# Altium footprint library NRF52832_Ball.PcbLib: 38 footprints (part 1 of 3)
Each footprint in its own frame and in the unit in brackets; x right, y up, seen from the top. Pads: shape width x height; smd on the part's side, far side on the other; paste and mask are expansions set on the pad; w line width, h text height; cw(c..) or ccw(c..) is an arc to the next point about the centre after c.
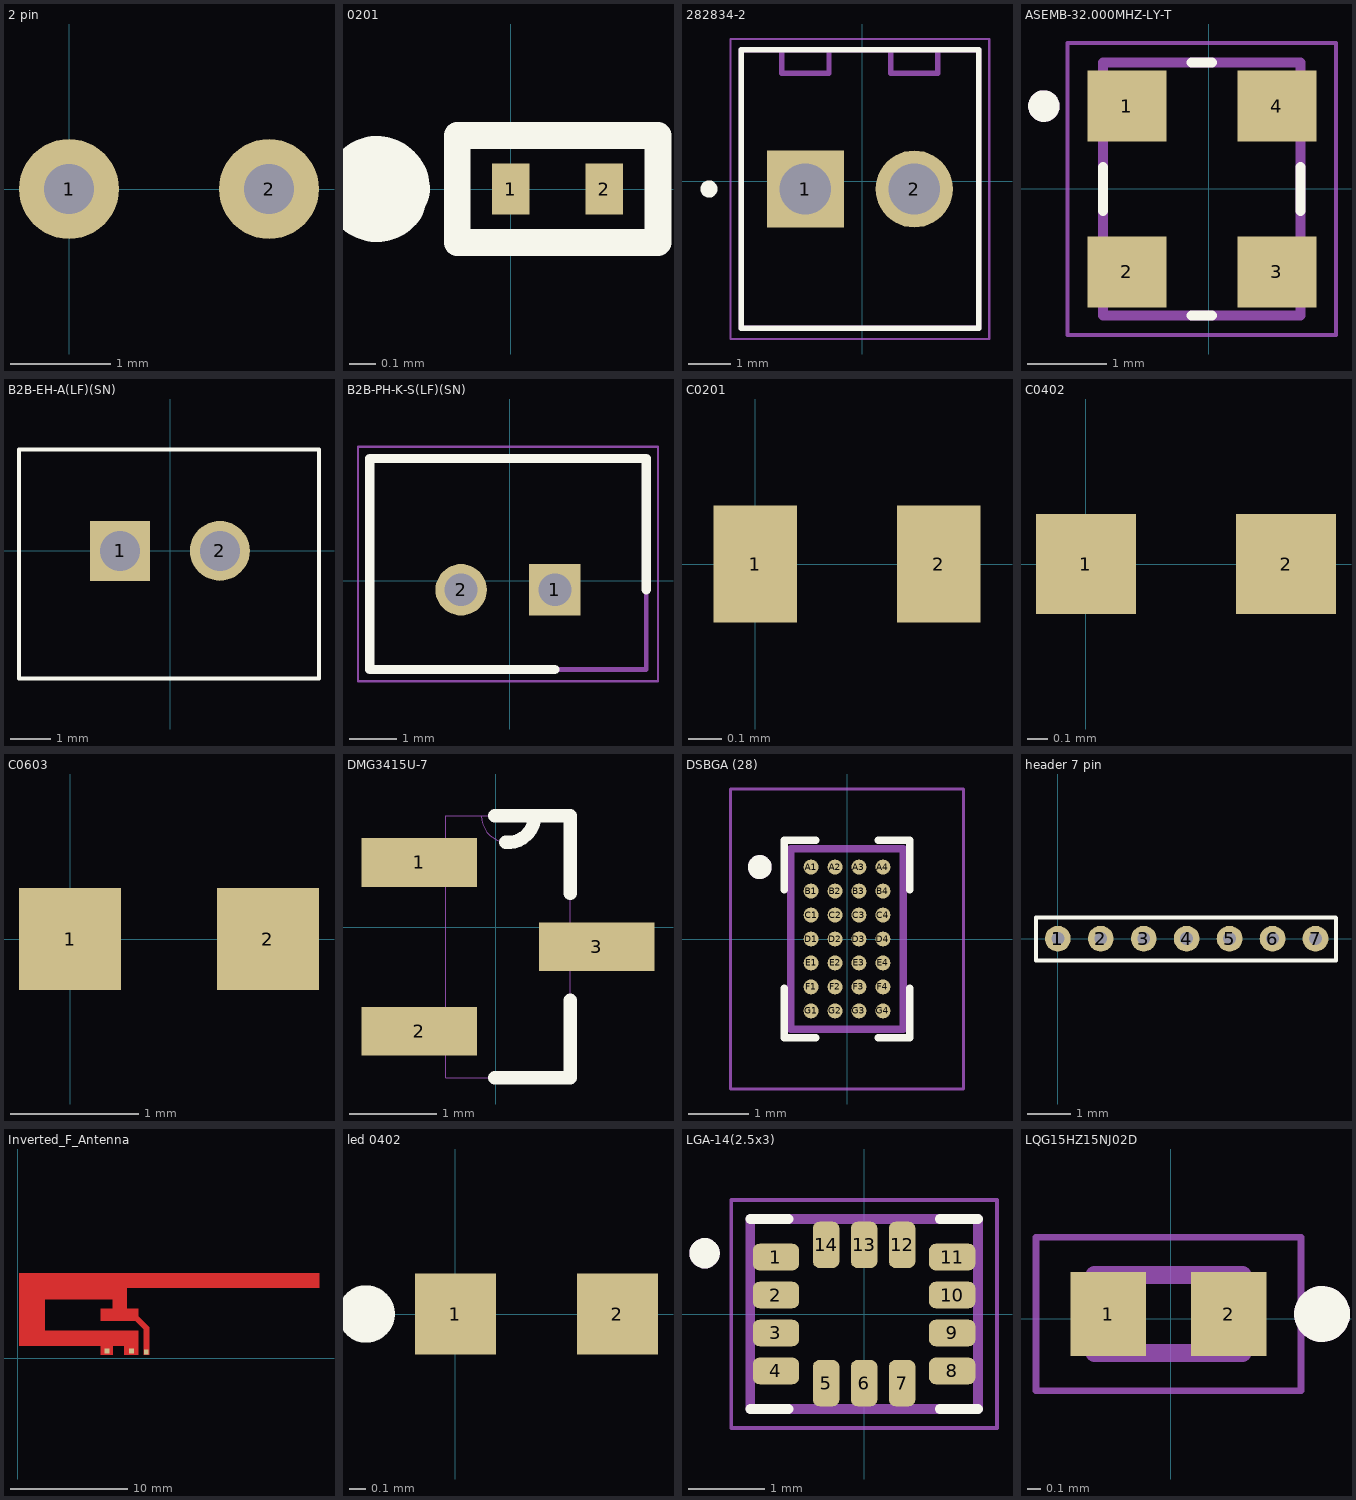
[diagram p0: the footprints below, top view; thin cyan lines are the x and y axes]

## 2 pin [mm]
pads (2):
  round 1 hole 0.5: 1(0,0) 2(2,0)

## 0201 [mm]
pads (2):
  rect 0.14x0.19 smd mask+0.1: 1(0,0)
  rect 0.14x0.19 smd paste+0 mask+0.1: 2(0.35,0)
Top Overlay:
  lines w0.1: -0.2,-0.2 -0.2,0.2 0.55,0.2 0.55,-0.2 -0.2,-0.2
  lines w0.254: -0.445,-0.044 cw(c-0.5,0) -0.429,0
3D body "RES0201.STEP": height 0, standoff -0.23, extent -0.125,-0.15 0.475,0.15

## 282834-2 [mm]
pads (2):
  rect 1.8x1.8 / inner round 1.8 / far side rect 1.8x1.8 hole 1.2: 1(-1.323,-0.179)
  round 1.8 hole 1.2: 2(1.217,-0.179)
Top Overlay:
  circle w0.2: c-3.573,-0.179 r0.1
  lines w0.127: -2.823,-3.429 2.717,-3.429 2.717,3.071 -2.823,3.071 -2.823,-3.429
Mechanical 13:
  lines w0.127: -1.873,3.021 -1.873,2.521 -0.773,2.521 -0.773,3.021 ; 0.667,3.021 0.667,2.521 1.767,2.521 1.767,3.021 ; -2.823,-3.429 2.717,-3.429 2.717,3.071 -2.823,3.071 -2.823,-3.429
Mechanical 15:
  lines w0.05: -3.073,-3.679 -3.073,3.321 2.967,3.321 2.967,-3.679 -3.073,-3.679
3D body "282834-2.step": height 10, standoff -3.4, extent -2.87,-3.45 2.67,3.05

## ASEMB-32.000MHZ-LY-T [mm]
pads (4):
  rect 1x0.9 smd: 1(-1.036,1.047) 2(-1.036,-1.053) 3(0.864,-1.053) 4(0.864,1.047)
Top Overlay:
  circle w0.2: c-2.086,1.047 r0.1
  lines w0.127: -1.336,-0.283 -1.336,0.277 ; -0.216,-1.603 0.044,-1.603 ; -0.216,1.597 0.044,1.597 ; 1.164,-0.283 1.164,0.277
Mechanical 13:
  circle w0.2: c-2.086,1.047 r0.1
  lines w0.127: -1.336,-1.603 1.164,-1.603 1.164,1.597 -1.336,1.597 -1.336,-1.603
Mechanical 15:
  lines w0.05: -1.786,-1.853 1.614,-1.853 1.614,1.847 -1.786,1.847 -1.786,-1.853
3D body "ASEMB-32.000MHZ-LY-T--3DModel-STEP-368357.STEP": height 0.83, standoff -0.01, extent -1.35,-1.6 1.15,1.6

## B2B-EH-A(LF)(SN) [mm]
pads (2):
  rect 1.5x1.5 hole 1: 1(-1.25,0)
  round 1.5 hole 1: 2(1.25,0)
Top Overlay:
  lines w0.1: -3.785,-3.2 -3.785,2.54 3.734,2.54 3.734,-3.2 -0.386,-3.2 -3.785,-3.2
3D body "JST 2.54X2P.step": height 7, standoff -3, extent -3.77,-3.15 3.77,2.55

## B2B-PH-K-S(LF)(SN) [mm]
pads (2):
  rect 1.1x1.1 / inner round 1.1 / far side rect 1.1x1.1 hole 0.7: 1(0.963,-0.195)
  round 1.1 hole 0.7: 2(-1.037,-0.195)
Top Overlay:
  lines w0.2: 0.963,-1.895 -2.987,-1.895 -2.987,2.605 2.913,2.605 2.913,-0.195
Mechanical 15:
  lines w0.1: -2.987,-1.895 -2.987,2.605 2.913,2.605 2.913,-1.895 -2.987,-1.895
Mechanical 20:
  lines w0.05: -3.237,-2.145 -3.237,2.855 3.163,2.855 3.163,-2.145 -3.237,-2.145
3D body "B2B-PH-K-S.step": height 3.4, standoff -6, extent -2.987,-1.895 2.913,2.605

## C0201 [mm]
pads (2):
  rect 0.25x0.35 smd: 1(0,0) 2(0.55,0)
3D body "csmd-0201_l0-6_w0-3_h0-3.stp": height 0.29, standoff -0.01, extent 0,-0.15 0.6,0.15

## C0402 [mm]
pads (2):
  rect 0.5x0.5 smd: 1(0,0) 2(1,0)
3D body "C_0402.STEP": height 0.55, standoff 0, extent 0,-0.25 1,0.25

## C0603 [mm]
pads (2):
  rect 0.8x0.8 smd: 1(0,0) 2(1.55,0)
3D body "Ceramic_Capacitor_0603_h32mil.step": height 0.81, standoff 0.01, extent 0,-0.4 1.6,0.4

## DMG3415U-7 [mil]
pads (3):
  rect 52x22 smd: 1(-34.45,29.26) 2(-34.45,-46.74) 3(45.55,-8.74)
Top Overlay:
  lines w6: -0.45,-67.74 33.55,-67.74 33.55,-32.74 ; -0.45,50.26 17.55,50.26 33.55,50.26 33.55,15.26 ; 4.51,38.26 ccw(c5.55,50.22) 17.55,50.22
Mechanical 13:
  lines w0: -22.45,-56.74 -43.45,-56.74 -43.45,-36.74 -22.45,-36.74 ; -22.45,-56.74 -22.45,-36.74 ; -22.45,-56.74 -22.45,-67.74 33.55,-67.74 33.55,-18.74 ; -22.45,-36.74 -22.45,19.26 ; -22.45,19.26 -43.45,19.26 -43.45,39.26 -22.45,39.26 ; -22.45,19.26 -22.45,39.26 ; -22.45,39.26 -22.45,50.26 -6.45,50.26 ; -6.45,50.26 ccw(c5.55,50.26) 17.55,50.26 ; -6.45,50.26 17.55,50.26 ; 17.55,50.26 33.55,50.26 33.55,1.26 ; 33.55,-18.74 54.55,-18.74 54.55,1.26 33.55,1.26 ; 33.55,-18.74 33.55,1.26
3D body "DMG3415U-7.STEP": height 43.31, standoff 0, extent -41.7,-65.83 52.79,48.35

## DSBGA (28) [mm]
pads (28):
  round 0.25 smd: A1(-0.6,1.2) A2(-0.2,1.2) A3(0.2,1.2) A4(0.6,1.2) B1(-0.6,0.8) B2(-0.2,0.8) B3(0.2,0.8) B4(0.6,0.8) C1(-0.6,0.4) C2(-0.2,0.4) C3(0.2,0.4) C4(0.6,0.4) D1(-0.6,0) D2(-0.2,0) D3(0.2,0) D4(0.6,0) E1(-0.6,-0.4) E2(-0.2,-0.4) E3(0.2,-0.4) E4(0.6,-0.4) F1(-0.6,-0.8) F2(-0.2,-0.8) F3(0.2,-0.8) F4(0.6,-0.8) G1(-0.6,-1.2) G2(-0.2,-1.2) G3(0.2,-1.2) G4(0.6,-1.2)
Top Overlay:
  circle w0.2: c-1.456,1.2 r0.1
  lines w0.127: -1.045,-0.822 -1.045,-1.645 -0.523,-1.645 ; -1.045,0.823 -1.045,1.645 -0.523,1.645 ; 0.523,-1.645 1.045,-1.645 1.045,-0.822 ; 0.523,1.645 1.045,1.645 1.045,0.823
Mechanical 13:
  circle w0.2: c-1.456,1.2 r0.1
  lines w0.127: -0.941,-1.503 -0.941,1.503 0.941,1.503 0.941,-1.503 -0.941,-1.503
Mechanical 15:
  lines w0.05: -1.941,-2.503 -1.941,2.503 1.941,2.503 1.941,-2.503 -1.941,-2.503
3D body "BQ51051BYFPT.STEP": height 0.5, standoff 0, extent -0.941,-1.503 0.941,1.503

## header 7 pin [mm]
pads (8):
  round 0.6 hole 0.3: 1(0,0) 1(0,0) 2(1,0) 3(2,0) 4(3,0) 5(4,0) 6(5,0) 7(6,0)
Top Overlay:
  lines w0.1: -0.508,-0.508 6.477,-0.508 6.477,0.483 6.467,0.493 -0.508,0.493 -0.508,-0.508

## Inverted_F_Antenna [mm]
pads (3):
  rect 0.4x0.4 smd mask+0.102: 1(10.95,0.51) 2(7.6,0.6) 2(9.7,0.6)
Top Layer:
  region: 9.841,3.335 10.166,3.66 11.195,2.632 10.87,2.307
  region: 10.73,0.3 11.19,0.3 11.19,2.627 10.73,2.627
  region: 25.68,7.21 0.1,7.21 0.1,1.04 7.08,1.04 7.08,0.3 8.08,0.3 8.08,1.04 9.08,1.04 9.08,0.3 10.28,0.3 10.28,2.33 2.28,2.33 2.28,5 8.08,5 8.08,4.2 7.08,4.2 7.08,3.2 10.28,3.2 10.28,4.2 9.28,4.2 9.28,6 25.68,6

## led 0402 [mm]
pads (2):
  rect 0.5x0.5 smd: 1(0,0) 2(1,0)
Top Overlay:
  circle w0.254: c-0.55,0 r0.05
3D body "led 0402.stp": height 0.16, standoff 0, extent -0.002,-0.252 1.002,0.252

## LGA-14(2.5x3) [mm]
pads (14):
  rrect50% 0.61x0.35 smd: 1(-1.16,0.75) 2(-1.16,0.25) 3(-1.16,-0.25) 4(-1.16,-0.75) 8(1.16,-0.75) 9(1.16,-0.25) 10(1.16,0.25) 11(1.16,0.75)
  rrect50% 0.35x0.61 smd: 5(-0.5,-0.91) 6(0,-0.91) 7(0.5,-0.91) 12(0.5,0.91) 13(0,0.91) 14(-0.5,0.91)
Top Overlay:
  circle w0.2: c-2.1,0.8 r0.1
  lines w0.127: -1.5,-1.25 -0.995,-1.25 ; -1.5,1.25 -0.995,1.25 ; 0.995,-1.25 1.5,-1.25 ; 0.995,1.25 1.5,1.25
Mechanical 13:
  circle w0.2: c-2.1,0.8 r0.1
  lines w0.127: -1.5,-1.25 -1.5,1.25 1.5,1.25 1.5,-1.25 -1.5,-1.25
Mechanical 15:
  lines w0.05: -1.75,-1.5 1.75,-1.5 1.75,1.5 -1.75,1.5 -1.75,-1.5
3D body "step_temp.STEP": height 0.86, standoff 0, extent -1.5,-1.25 1.5,1.25

## LQG15HZ15NJ02D [mm]
pads (2):
  rect 0.54x0.6 smd: 1(-0.448,0.035) 2(0.416,0.035)
Top Overlay:
  circle w0.2: c1.084,0.035 r0.1
Mechanical 13:
  circle w0.2: c1.084,0.035 r0.1
  lines w0.127: -0.546,-0.245 0.514,-0.245 0.514,0.315 -0.546,0.315 -0.546,-0.245
Mechanical 15:
  lines w0.05: -0.966,-0.515 0.934,-0.515 0.934,0.585 -0.966,0.585 -0.966,-0.515
3D body "LQG15HZ15NJ02D.STEP": height 0.55, standoff 0, extent -0.516,-0.219 0.484,0.281